# EAGLE library part ESQT-111-02-X-D (library Traficon)
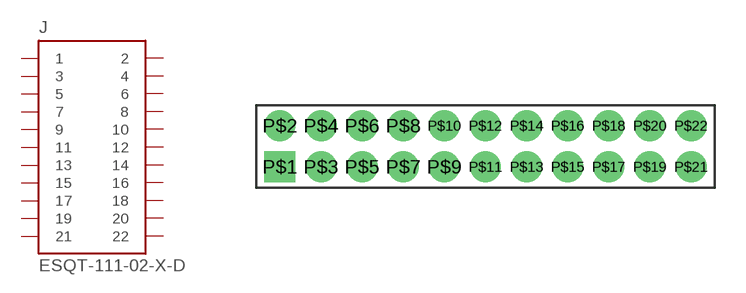
[diagram p175: symbol with the pads of 2MMMHEAD2X11_TH; footprint 2MMMHEAD2X11_TH]

Designator prefix J

## ESQT-111-02-X-D  [2MMMHEAD2X11_TH]
P$1  1  pas
P$2  2  pas
P$3  3  pas
P$4  4  pas
P$5  5  pas
P$6  6  pas
P$7  7  pas
P$8  8  pas
P$9  9  pas
P$10  10  pas
P$11  11  pas
P$12  12  pas
P$13  13  pas
P$14  14  pas
P$15  15  pas
P$16  16  pas
P$17  17
P$18  18
P$19  19
P$20  20
P$21  21
P$22  22

## Footprint 2MMMHEAD2X11_TH (pad centres in mm)
drill 1 square: P$1 -10,-1
drill 1 round: P$2 -10,1; P$3 -8,-1; P$4 -8,1; P$5 -6,-1; P$6 -6,1; P$7 -4,-1; P$8 -4,1; P$9 -2,-1; P$10 -2,1; P$11 0,-1; P$12 0,1; P$13 2,-1; P$14 2,1; P$15 4,-1; P$16 4,1; P$17 6,-1; P$18 6,1; P$19 8,-1; P$20 8,1; P$21 10,-1; P$22 10,1